# Altium schematic symbol library UX60SC-MB-5S8.SchLib: 1 symbol
Pins are listed as number, name and electrical type; pins without a type are passive.

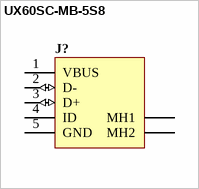
[diagram p0: symbol UX60SC-MB-5S8]

## UX60SC-MB-5S8
designator J?
pins: 1 VBUS (power), 2 D- (io), 3 D+ (io), 4 ID, 5 GND (power), MH1, MH2